# Altium footprint library RT_SUPER_C1.PcbLib: 23 footprints (part 1 of 2)
Each footprint in its own frame and in the unit in brackets; x right, y up, seen from the top. Pads: shape width x height; smd on the part's side, far side on the other; paste and mask are expansions set on the pad; w line width, h text height; cw(c..) or ccw(c..) is an arc to the next point about the centre after c.
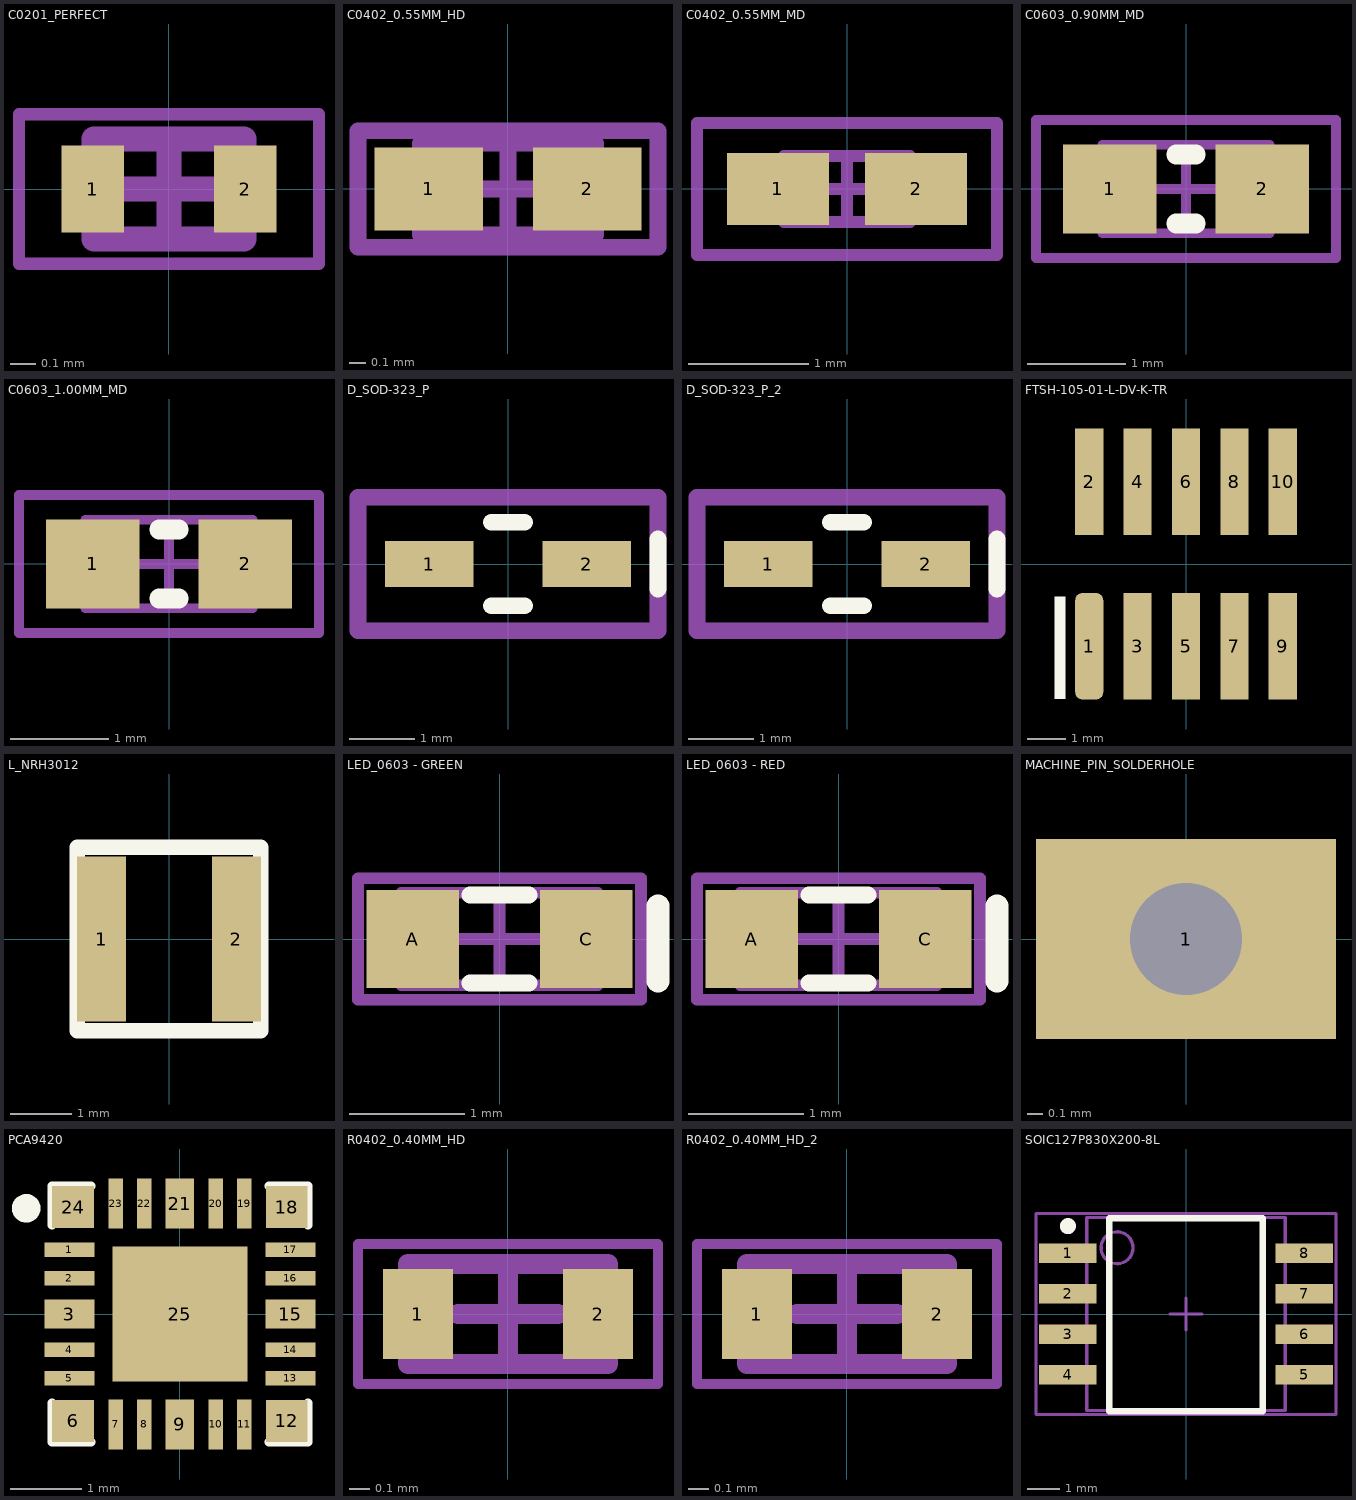
[diagram p0: the footprints below, top view; thin cyan lines are the x and y axes]

## C0201_PERFECT [mm] "Chip Capacitor, 2-Leads, Body 0.60x0.35mm, IPC High https://www.worthingtonassembly.com/blog/2018/1/29/the-perfect-0201-footprint"
height 0.3
pads (2):
  rect 0.25x0.35 smd mask+0.05: 1(-0.305,0) 2(0.305,0)
Mechanical 13:
  lines w0.1: -0.3,-0.2 0.3,-0.2 0.3,0.2 -0.3,0.2 -0.3,-0.2
Mechanical 15:
  lines w0.05: -0.6,-0.3 0.6,-0.3 0.6,0.3 -0.6,0.3 -0.6,-0.3
  lines w0.1: -0.2,0 0.2,0 ; 0,-0.2 0,0.2
3D body "CAPC0604X03L.step": height 0.3, standoff 0, extent -0.3,-0.2 0.3,0.2

## C0402_0.55MM_HD [mm] "Capacitor 0402 0.55mm Height- High Density"
height 0.5
pads (2):
  rect 0.65x0.5 smd: 1(-0.475,0) 2(0.475,0)
Mechanical 13:
  lines w0.1: -0.525,-0.275 0.525,-0.275 0.525,0.275 -0.525,0.275 -0.525,-0.275
Mechanical 15:
  lines w0.1: -0.275,0 0.275,0 ; 0,-0.275 0,0.275 ; -0.9,-0.35 0.9,-0.35 0.9,0.35 -0.9,0.35 -0.9,-0.35
3D body "0402_0.55mm.STEP": height 0.55, standoff 0, extent -0.525,-0.25 0.475,0.25

## C0402_0.55MM_MD [mm] "Capacitor - 0402 - Medium Density"
height 0.55
pads (2):
  rect 0.85x0.6 smd: 1(-0.575,0) 2(0.575,0)
Mechanical 13:
  lines w0.1: -0.525,-0.275 -0.525,0.275 0.525,0.275 0.525,-0.275 -0.525,-0.275
Mechanical 15:
  lines w0.1: -0.275,0 0.275,0 ; 0,-0.275 0,0.275 ; -1.25,-0.55 -1.25,0.55 1.25,0.55 1.25,-0.55 -1.25,-0.55
3D body "0402_0.55mm.STEP": height 0.55, standoff 0, extent -0.5,-0.25 0.5,0.25

## C0603_0.90MM_MD [mm] "Capacitor 0603 - Medium Density"
height 0.9
pads (2):
  rect 0.95x0.9 smd: 1(-0.775,0) 2(0.775,0)
Top Overlay:
  lines w0.2: -0.1,-0.35 0.1,-0.35 ; -0.1,0.35 0.1,0.35
Mechanical 13:
  lines w0.1: -0.85,-0.45 0.85,-0.45 0.85,0.45 -0.85,0.45 -0.85,-0.45
Mechanical 15:
  lines w0.1: -0.45,0 0.45,0 ; 0,-0.45 0,0.45 ; -1.525,-0.7 1.525,-0.7 1.525,0.7 -1.525,0.7 -1.525,-0.7
3D body "0603_0.90mm.STEP": height 0.9, standoff 0, extent -0.8,-0.4 0.8,0.4

## C0603_1.00MM_MD [mm] "Capacitor 0603 - Medium Density"
height 0.95
pads (2):
  rect 0.95x0.9 smd: 1(-0.775,0) 2(0.775,0)
Top Overlay:
  lines w0.2: -0.1,-0.35 0.1,-0.35 ; -0.1,0.35 0.1,0.35
Mechanical 13:
  lines w0.1: -0.85,-0.45 -0.85,0.45 0.85,0.45 0.85,-0.45 -0.85,-0.45
Mechanical 15:
  lines w0.1: -0.45,0 0.45,0 ; 0,-0.45 0,0.45 ; -1.525,-0.7 -1.525,0.7 1.525,0.7 1.525,-0.7 -1.525,-0.7
3D body "0603_0.90mm.STEP": height 1, standoff 0.1, extent -0.8,-0.4 0.8,0.4

## D_SOD-323_P [mm] "SOD-123 Diode - Polarized"
height 1.35
pads (2):
  rect 1.35x0.7 smd: 1(-1.2,0) 2(1.2,0)
Top Overlay:
  lines w0.254: -0.254,-0.635 0.254,-0.635 ; -0.254,0.635 0.254,0.635 ; 2.286,-0.381 2.286,0.381
Mechanical 15:
  lines w0.254: -2.286,-1.016 -0.084,-1.016 2.286,-1.016 2.286,1.016 -2.286,1.016 -2.286,-1.016
3D body "SOD-323.step": height 1.1, standoff 0, extent -1.3,-0.675 1.3,0.675

## D_SOD-323_P_2 [mm]
pads (2):
  rect 1.35x0.7 smd: 1(-1.2,0) 2(1.2,0)
Top Overlay:
  lines w0.254: -0.254,-0.635 0.254,-0.635 ; -0.254,0.635 0.254,0.635 ; 2.286,-0.381 2.286,0.381
Mechanical 15:
  lines w0.254: -2.286,-1.016 -2.286,1.016 2.286,1.016 2.286,-1.016 -0.084,-1.016 -2.286,-1.016
3D body "SOD-323.step": height 1.1, standoff 0, extent -1.3,-0.675 1.3,0.675

## FTSH-105-01-L-DV-K-TR [mil] "Samtec FTSH-105-01-F-DV-K-A SMT Connector"
height 235.04
pads (10):
  rrect50% 29x110 smd: 1(-100,-85)
  rect 29x110 smd: 2(-100,85) 3(-50,-85) 4(-50,85) 5(0,-85) 6(0,85) 7(50,-85) 8(50,85) 9(100,-85) 10(100,85)
Top Overlay:
  rectangle: -135.67,-139.42 -124.67,-33.42
3D body "FTSH-105-01-L-DV-K-TR.stp": height 241.5, standoff 0.5, extent -125,-115 125,115

## L_NRH3012 [mm] "Inductor"
height 1.2
pads (2):
  rect 0.8x2.7 smd: 1(-1.1,0) 2(1.1,0)
Top Overlay:
  lines w0.254: -1.5,-1.5 1.5,-1.5 1.5,1.5 -1.5,1.5 -1.5,-1.5
3D body: height 1.2, standoff 0.05, extent -1.5,-1.5 1.5,1.5

## LED_0603 - GREEN [mm] "LED_0603 - GREEN"
height 0.8
pads (2):
  rect 0.8x0.85 smd: A(-0.75,0) C(0.75,0)
Top Overlay:
  lines w0.15: -0.254,-0.381 0.254,-0.381 ; -0.254,0.381 0.254,0.381
  lines w0.2: 1.372,-0.362 1.372,0.287
Mechanical 13:
  lines w0.1: -0.85,-0.4 0.85,-0.4 0.85,0.4 -0.85,0.4 -0.85,-0.4
Mechanical 15:
  lines w0.1: -0.4,0 0.4,0 ; 0,-0.4 0,0.4 ; -1.225,-0.525 1.225,-0.525 1.225,0.525 -1.225,0.525 -1.225,-0.525
3D body: height 0.25, standoff 0, extent -0.8,-0.399 -0.5,0.4
3D body: height 0.25, standoff 0, extent 0.5,-0.399 0.8,0.4
3D body: height 0.25, standoff 0, extent -0.499,-0.399 0.499,0.399
3D body: height 0.75, standoff 0.25, extent -0.475,-0.399 0.474,0.399
3D body: height 0.26, standoff 0.25, extent 0.476,-0.374 0.499,-0.226
3D body: height 0.26, standoff 0.25, extent 0.476,0.226 0.499,0.374

## LED_0603 - RED [mm] "LED_0603"
height 0.8
pads (2):
  rect 0.8x0.85 smd: A(-0.75,0) C(0.75,0)
Top Overlay:
  lines w0.15: -0.254,-0.381 0.254,-0.381 ; -0.254,0.381 0.254,0.381
  lines w0.2: 1.372,-0.362 1.372,0.287
Mechanical 13:
  lines w0.1: -0.85,-0.4 0.85,-0.4 0.85,0.4 -0.85,0.4 -0.85,-0.4
Mechanical 15:
  lines w0.1: -0.4,0 0.4,0 ; 0,-0.4 0,0.4 ; -1.225,-0.525 1.225,-0.525 1.225,0.525 -1.225,0.525 -1.225,-0.525
3D body: height 0.25, standoff 0, extent -0.8,-0.399 -0.5,0.4
3D body: height 0.25, standoff 0, extent 0.5,-0.399 0.8,0.4
3D body: height 0.25, standoff 0, extent -0.499,-0.399 0.499,0.399
3D body: height 0.75, standoff 0.25, extent -0.475,-0.399 0.474,0.399
3D body: height 0.26, standoff 0.25, extent 0.476,-0.374 0.499,-0.226
3D body: height 0.26, standoff 0.25, extent 0.476,0.226 0.499,0.374

## MACHINE_PIN_SOLDERHOLE [mil]
pads (1):
  rect 75x50 hole 28: 1(0,0)
3D body "mill-max-5421-0-00-15-00-00-03-0.step": height 173.5, standoff -99.5, extent -20,-20 20,20

## PCA9420 [mm]
pads (25):
  rect 0.7x0.2 smd mask+0.051: 1(-1.55,0.9) 2(-1.55,0.5) 4(-1.55,-0.5) 5(-1.55,-0.9) 13(1.55,-0.9) 14(1.55,-0.5) 16(1.55,0.5) 17(1.55,0.9)
  rect 0.7x0.4 smd mask+0.051: 3(-1.55,0) 15(1.55,0)
  rect 0.584x0.584 smd mask+0.051: 6(-1.5,-1.5) 12(1.5,-1.5) 18(1.5,1.5) 24(-1.5,1.5)
  rect 0.2x0.7 smd mask+0.051: 7(-0.9,-1.55) 8(-0.5,-1.55) 10(0.5,-1.55) 11(0.9,-1.55) 19(0.9,1.55) 20(0.5,1.55) 22(-0.5,1.55) 23(-0.9,1.55)
  rect 0.4x0.7 smd mask+0.051: 9(0,-1.55) 21(0,1.55)
  rect 1.9x1.9 smd mask+0.051: 25(0,0)
Top Overlay:
  circle w0.2: c-2.158,1.483 r0.1
  lines w0.127: -1.795,-1.25 -1.795,-1.795 -1.25,-1.795 ; -1.795,1.25 -1.795,1.795 -1.25,1.795 ; 1.25,-1.795 1.795,-1.795 1.795,-1.25 ; 1.25,1.795 1.795,1.795 1.795,1.25
Top Paste:
  region: 0.132,-0.132 0.818,-0.132 0.818,-0.818 0.132,-0.818
  region: -0.818,0.818 -0.132,0.818 -0.132,0.132 -0.818,0.132
  region: -0.818,-0.132 -0.132,-0.132 -0.132,-0.818 -0.818,-0.818
  region: 0.132,0.818 0.818,0.818 0.818,0.132 0.132,0.132
Top Solder:
  region: -1,1 1,1 1,-1 -1,-1
  region: -1.95,0.25 -1.15,0.25 -1.15,-0.25 -1.95,-0.25
  region: -1.95,-0.35 -1.15,-0.35 -1.15,-0.65 -1.95,-0.65
  region: -1.95,-0.75 -1.15,-0.75 -1.15,-1.05 -1.95,-1.05
  region: -1.95,0.65 -1.15,0.65 -1.15,0.35 -1.95,0.35
  region: -1.95,1.05 -1.15,1.05 -1.15,0.75 -1.95,0.75
  region: -1.95,1.05 -1.15,1.05 -1.15,0.75 -1.95,0.75
  region: -1.95,1.05 -1.15,1.05 -1.15,0.75 -1.95,0.75
  region: 1.15,1.05 1.95,1.05 1.95,0.75 1.15,0.75
  region: 1.15,0.65 1.95,0.65 1.95,0.35 1.15,0.35
  region: 1.15,-0.35 1.95,-0.35 1.95,-0.65 1.15,-0.65
  region: 1.15,-0.75 1.95,-0.75 1.95,-1.05 1.15,-1.05
  region: 1.15,0.25 1.95,0.25 1.95,-0.25 1.15,-0.25
  region: -1.05,1.95 -0.75,1.95 -0.75,1.15 -1.05,1.15
  region: 0.75,1.95 1.05,1.95 1.05,1.15 0.75,1.15
  region: -0.65,1.95 -0.35,1.95 -0.35,1.15 -0.65,1.15
  region: 0.35,1.95 0.65,1.95 0.65,1.15 0.35,1.15
  region: -0.25,1.95 0.25,1.95 0.25,1.15 -0.25,1.15
  region: -1.05,-1.15 -0.75,-1.15 -0.75,-1.95 -1.05,-1.95
  region: -0.65,-1.15 -0.35,-1.15 -0.35,-1.95 -0.65,-1.95
  region: -0.25,-1.15 0.25,-1.15 0.25,-1.95 -0.25,-1.95
  region: 0.35,-1.15 0.65,-1.15 0.65,-1.95 0.35,-1.95
  region: 0.75,-1.15 1.05,-1.15 1.05,-1.95 0.75,-1.95
3D body: height 1, standoff 0.05, extent -1.5,-1.5 1.5,1.5

## R0402_0.40MM_HD [mm] "Resistor 0402 High Density"
height 0.4
pads (2):
  rect 0.35x0.45 smd: 1(-0.45,0) 2(0.45,0)
Mechanical 13:
  lines w0.1: -0.5,-0.25 0.5,-0.25 0.5,0.25 -0.5,0.25 -0.5,-0.25
Mechanical 15:
  lines w0.05: -0.75,-0.35 0.75,-0.35 0.75,0.35 -0.75,0.35 -0.75,-0.35
  lines w0.1: -0.25,0 0.25,0 ; 0,-0.25 0,0.25
3D body "RESC1005X04L.step": height 0.4, standoff 0, extent -0.5,-0.25 0.5,0.25

## R0402_0.40MM_HD_2 [mm]
pads (2):
  rect 0.35x0.45 smd: 1(-0.45,0) 2(0.45,0)
Mechanical 13:
  lines w0.1: -0.5,-0.25 0.5,-0.25 0.5,0.25 -0.5,0.25 -0.5,-0.25
Mechanical 15:
  lines w0.05: -0.75,-0.35 0.75,-0.35 0.75,0.35 -0.75,0.35 -0.75,-0.35
  lines w0.1: -0.25,0 0.25,0 ; 0,-0.25 0,0.25
3D body "RESC1005X04L.step": height 0.4, standoff 0, extent -0.5,-0.25 0.5,0.25

## SOIC127P830X200-8L [mm] "SOIC, 8-Leads, Body 6.1x6.2mm (max), Pitch 1.27mm, IPC High Density"
height 2
pads (8):
  rect 1.8x0.6 smd: 1(-3.7,1.905) 2(-3.7,0.635) 3(-3.7,-0.635) 4(-3.7,-1.905) 5(3.7,-1.905) 6(3.7,-0.635) 7(3.7,0.635) 8(3.7,1.905)
Top Overlay:
  circle w0.25: c-3.7,2.755 r0.125
  circle w0.025: c-2.362,2.972 r0.025
  lines w0.2: -2.4,-3.05 -2.4,3 2.4,3 2.4,-3.05 -2.4,-3.05
Mechanical 13:
  circle w0.1: c-2.16,2.075 r0.5
  lines w0.1: -3.11,-3.025 -3.11,3.025 3.11,3.025 3.11,-3.025 -3.11,-3.025
Mechanical 15:
  lines w0.1: -0.5,0 0.5,0 ; 0,-0.5 0,0.5 ; -4.7,-3.15 -4.7,3.15 4.7,3.15 4.7,-3.15 -4.7,-3.15
3D body "User Library-SOIC8_(ATTINY12).step": height 2.3, standoff -0.02, extent -4.196,-2.7 4.196,2.68